# Altium footprint library Transistors.PcbLib: 3 footprints
Each footprint in its own frame and in the unit in brackets; x right, y up, seen from the top. Pads: shape width x height; smd on the part's side, far side on the other; paste and mask are expansions set on the pad; w line width, h text height; cw(c..) or ccw(c..) is an arc to the next point about the centre after c.
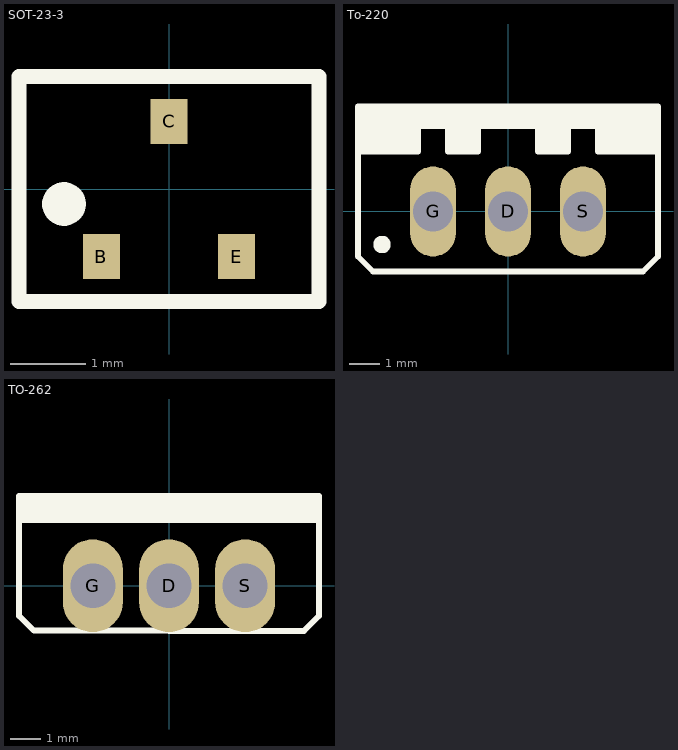
[diagram p0: the footprints below, top view; thin cyan lines are the x and y axes]

## SOT-23-3 [mm]
pads (3):
  rect 0.5x0.6 smd: B(-0.9,-0.9) C(0,0.9) E(0.9,-0.9)
Top Overlay:
  circle w0.381: c-1.4,-0.2 r0.1
  lines w0.2: -2,-1.5 -2,1.5 2,1.5 2,-1.5 -2,-1.5
3D body "mmbt3904.stp": height 1.07, standoff -0.01, extent -1.46,-1.175 1.46,1.165

## To-220 [mm]
pads (3):
  oval 1.524x3 hole 1.33: D(0,0) G(-2.5,0) S(2.5,0)
Top Overlay:
  circle w0.381: c-4.2,-1.1 r0.1
  region: -3,3.5 3,3.5 3,2.75 -3,2.75
  region: -5,3.5 -3,3.5 -3,2 -5,2
  region: -2,3.5 -1,3.5 -1,2 -2,2
  region: -1.5,2.5
  region: 1,3.5 2,3.5 2,2 1,2
  region: 3,3.5 5,3.5 5,2 3,2
  lines w0.2: -5,2 -4.5,2 -3.5,2 -3,2 -3,3.5 ; -2,3.5 -2,2 -1,2 -1,3.5 ; 1,3.5 1,2 2,2 2,3.5 ; 3,3.5 3,2 3.5,2 4.5,2 5,2 ; -5,-1.5 -5,3.5 5,3.5 5,0 5,-1.5 4.5,-2 3,-2 -0.5,-2 -4.5,-2 -5,-1.5
3D body "81584.stp": height 22.66, standoff -8.33, extent -5.335,-1.608 5.335,3.222

## TO-262 [mm]
pads (3):
  oval 2x3.1 hole 1.5: D(0,0) G(-2.54,0) S(2.54,0)
Top Overlay:
  region: -5,3 5,3 5,2.2 -5,2.2
  lines w0.2: -5,2.2 5,2.2 ; -5,-1 -4.5,-1.5 0,-1.5 4.5,-1.5 5,-1 5,3 0,3 -5,3 -5,-1
3D body "User Library-TO262-L.STEP": height 15.15, standoff -10, extent -5,-1.223 5,3.287